# Altium schematic symbol library MC78M12.Schlib: 1 symbol
Pins are listed as number, name and electrical type; pins without a type are passive.

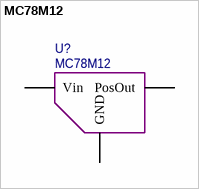
[diagram p0: symbol MC78M12]

## MC78M12
designator U?
pins: 1 Vin, 3 PosOut, 4 GND